# Altium schematic symbol library SCH - POWER - LINEAR VREG - TI TPS79401_DCQ_6.SchLib: 1 symbol
Pins are listed as number, name and electrical type; pins without a type are passive.

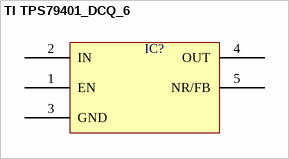
[diagram p0: symbol TI TPS79401_DCQ_6]

## TI TPS79401_DCQ_6
designator IC?  (value not drawn)
pins: 1 EN, 2 IN, 3 GND, 4 OUT, 5 NR/FB